# EAGLE library part PIN1X8_254 (library Pinheader)
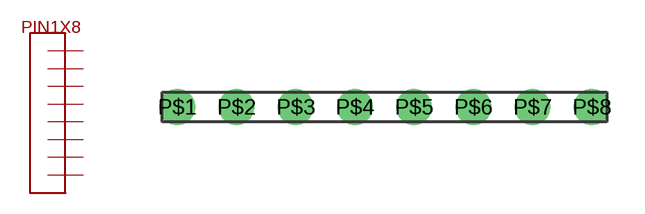
[diagram p4: symbol with the pads of PIN1X8_254; footprint PIN1X8_254]

Designator prefix -

## PIN1X8_254  [PIN1X8_254]
P$1  P1
P$2  P2
P$3  P3
P$4  P4
P$5  P5
P$6  P6
P$7  P7
P$8  P8

## Footprint PIN1X8_254 (pad centres in mm)
drill 1.016: P$1 0,0; P$2 2.54,0; P$3 5.08,0; P$4 7.62,0; P$5 10.16,0; P$6 12.7,0; P$7 15.24,0; P$8 17.78,0